# Altium footprint library PcbLib1.PcbLib: 23 footprints (part 1 of 2)
Each footprint in its own frame and in the unit in brackets; x right, y up, seen from the top. Pads: shape width x height; smd on the part's side, far side on the other; paste and mask are expansions set on the pad; w line width, h text height; cw(c..) or ccw(c..) is an arc to the next point about the centre after c.
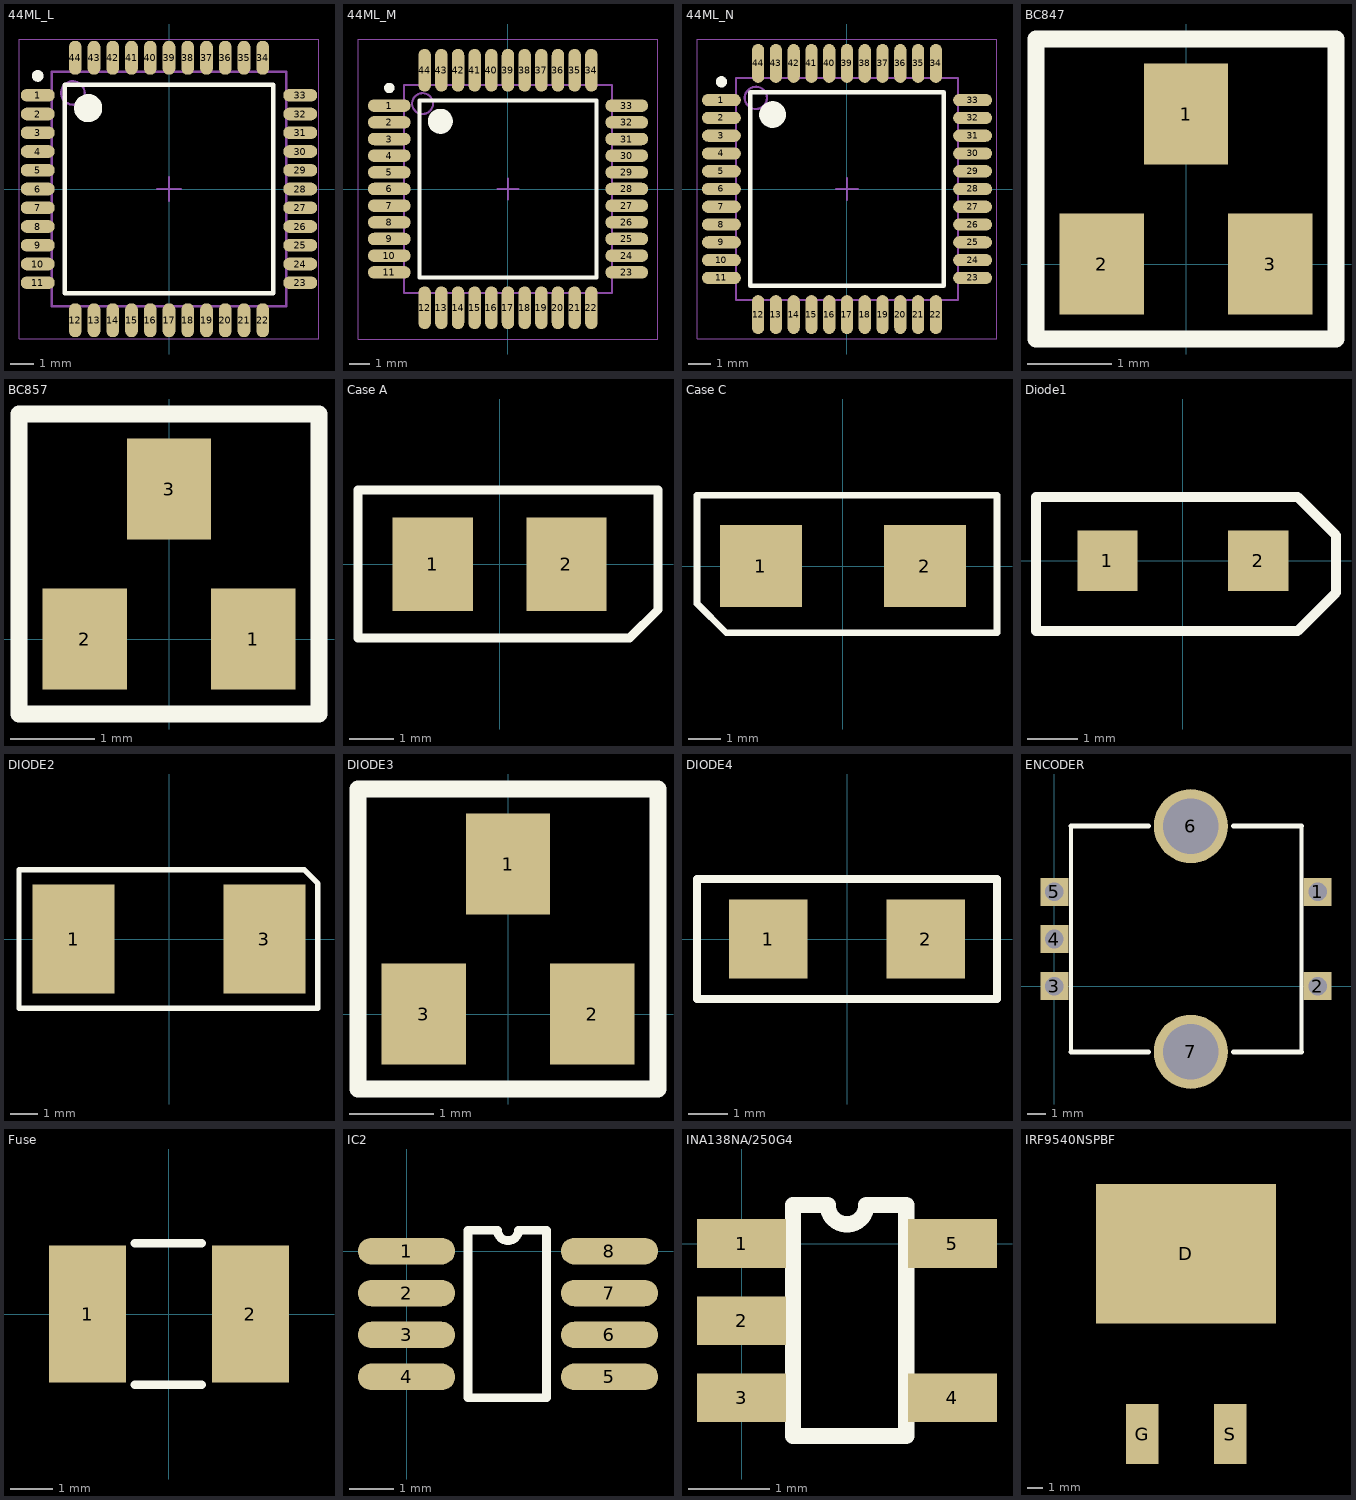
[diagram p0: the footprints below, top view; thin cyan lines are the x and y axes]

## 44ML_L [mm] "Thin QFP, 44-Leads, Body 10x10mm, Pitch 0.8mm, IPC High Density"
height 1.2
pads (44):
  oval 1.45x0.55 smd: 1(-5.6,4) 2(-5.6,3.2) 3(-5.6,2.4) 4(-5.6,1.6) 5(-5.6,0.8) 6(-5.6,0) 7(-5.6,-0.8) 8(-5.6,-1.6) 9(-5.6,-2.4) 10(-5.6,-3.2) 11(-5.6,-4) 23(5.6,-4) 24(5.6,-3.2) 25(5.6,-2.4) 26(5.6,-1.6) 27(5.6,-0.8) 28(5.6,0) 29(5.6,0.8) 30(5.6,1.6) 31(5.6,2.4) 32(5.6,3.2) 33(5.6,4)
  oval 0.55x1.45 smd: 12(-4,-5.6) 13(-3.2,-5.6) 14(-2.4,-5.6) 15(-1.6,-5.6) 16(-0.8,-5.6) 17(0,-5.6) 18(0.8,-5.6) 19(1.6,-5.6) 20(2.4,-5.6) 21(3.2,-5.6) 22(4,-5.6) 34(4,5.6) 35(3.2,5.6) 36(2.4,5.6) 37(1.6,5.6) 38(0.8,5.6) 39(0,5.6) 40(-0.8,5.6) 41(-1.6,5.6) 42(-2.4,5.6) 43(-3.2,5.6) 44(-4,5.6)
Top Overlay:
  circle w0.25: c-5.6,4.825 r0.125
  circle w0.6: c-3.45,3.45 r0.3
  lines w0.2: -4.45,-4.45 -4.45,4.45 4.45,4.45 4.45,-4.45 -4.45,-4.45
Mechanical 13:
  circle w0.1: c-4.1,4.1 r0.5
  lines w0.1: -5,-5 -5,5 5,5 5,-5 -5,-5
Mechanical 15:
  lines w0.05: -6.4,-6.4 -6.4,6.4 6.4,6.4 6.4,-6.4 -6.4,-6.4
  lines w0.1: -0.5,0 0.5,0 ; 0,-0.5 0,0.5
3D body: height 1.2, standoff 0, extent -5,-5 5,5

## 44ML_M [mm] "Thin QFP, 44-Leads, Body 10x10mm, Pitch 0.8mm, IPC Low Density"
height 1.2
pads (44):
  oval 2.05x0.6 smd: 1(-5.7,4) 2(-5.7,3.2) 3(-5.7,2.4) 4(-5.7,1.6) 5(-5.7,0.8) 6(-5.7,0) 7(-5.7,-0.8) 8(-5.7,-1.6) 9(-5.7,-2.4) 10(-5.7,-3.2) 11(-5.7,-4) 23(5.7,-4) 24(5.7,-3.2) 25(5.7,-2.4) 26(5.7,-1.6) 27(5.7,-0.8) 28(5.7,0) 29(5.7,0.8) 30(5.7,1.6) 31(5.7,2.4) 32(5.7,3.2) 33(5.7,4)
  oval 0.6x2.05 smd: 12(-4,-5.7) 13(-3.2,-5.7) 14(-2.4,-5.7) 15(-1.6,-5.7) 16(-0.8,-5.7) 17(0,-5.7) 18(0.8,-5.7) 19(1.6,-5.7) 20(2.4,-5.7) 21(3.2,-5.7) 22(4,-5.7) 34(4,5.7) 35(3.2,5.7) 36(2.4,5.7) 37(1.6,5.7) 38(0.8,5.7) 39(0,5.7) 40(-0.8,5.7) 41(-1.6,5.7) 42(-2.4,5.7) 43(-3.2,5.7) 44(-4,5.7)
Top Overlay:
  circle w0.6: c-3.25,3.25 r0.3
  circle w0.25: c-5.7,4.85 r0.125
  lines w0.2: -4.25,-4.25 4.25,-4.25 4.25,4.25 -4.25,4.25 -4.25,-4.25
Mechanical 13:
  circle w0.1: c-4.1,4.1 r0.5
  lines w0.1: -5,-5 5,-5 5,5 -5,5 -5,-5
Mechanical 15:
  lines w0.05: -7.2,-7.2 7.2,-7.2 7.2,7.2 -7.2,7.2 -7.2,-7.2
  lines w0.1: -0.5,0 0.5,0 ; 0,-0.5 0,0.5
3D body: height 1.2, standoff 0, extent -5,-5 5,5

## 44ML_N [mm] "Thin QFP, 44-Leads, Body 10x10mm, Pitch 0.8mm, IPC Medium Density"
height 1.2
pads (44):
  oval 1.75x0.55 smd: 1(-5.65,4) 2(-5.65,3.2) 3(-5.65,2.4) 4(-5.65,1.6) 5(-5.65,0.8) 6(-5.65,0) 7(-5.65,-0.8) 8(-5.65,-1.6) 9(-5.65,-2.4) 10(-5.65,-3.2) 11(-5.65,-4) 23(5.65,-4) 24(5.65,-3.2) 25(5.65,-2.4) 26(5.65,-1.6) 27(5.65,-0.8) 28(5.65,0) 29(5.65,0.8) 30(5.65,1.6) 31(5.65,2.4) 32(5.65,3.2) 33(5.65,4)
  oval 0.55x1.75 smd: 12(-4,-5.65) 13(-3.2,-5.65) 14(-2.4,-5.65) 15(-1.6,-5.65) 16(-0.8,-5.65) 17(0,-5.65) 18(0.8,-5.65) 19(1.6,-5.65) 20(2.4,-5.65) 21(3.2,-5.65) 22(4,-5.65) 34(4,5.65) 35(3.2,5.65) 36(2.4,5.65) 37(1.6,5.65) 38(0.8,5.65) 39(0,5.65) 40(-0.8,5.65) 41(-1.6,5.65) 42(-2.4,5.65) 43(-3.2,5.65) 44(-4,5.65)
Top Overlay:
  circle w0.25: c-5.65,4.825 r0.125
  circle w0.6: c-3.35,3.35 r0.3
  lines w0.2: -4.35,-4.35 -4.35,4.35 4.35,4.35 4.35,-4.35 -4.35,-4.35
Mechanical 13:
  circle w0.1: c-4.1,4.1 r0.5
  lines w0.1: -5,-5 -5,5 5,5 5,-5 -5,-5
Mechanical 15:
  lines w0.05: -6.75,-6.75 -6.75,6.75 6.75,6.75 6.75,-6.75 -6.75,-6.75
  lines w0.1: -0.5,0 0.5,0 ; 0,-0.5 0,0.5
3D body: height 1.2, standoff 0, extent -5,-5 5,5

## BC847 [mm]
pads (3):
  rect 1x1.2 smd: 1(0,1.778) 2(-1,0) 3(1,0)
Top Overlay:
  lines w0.2: -1.778,-0.889 1.778,-0.889 1.778,2.667 -1.778,2.667 -1.778,-0.889

## BC857 [mm]
pads (3):
  rect 1x1.2 smd: 1(1,0) 2(-1,0) 3(0,1.778)
Top Overlay:
  lines w0.2: -1.778,-0.889 1.778,-0.889 1.778,2.667 -1.778,2.667 -1.778,-0.889

## Case A [mm]
pads (2):
  rect 1.8x2.1 smd: 1(-1.5,0) 2(1.5,0)
Top Overlay:
  lines w0.2: -3.175,-1.651 -2.254,-1.651 0.857,-1.651 2.921,-1.651 3.556,-1.016 3.556,1.667 -3.175,1.667 -3.175,0.087 -3.175,-1.651

## Case C [mm]
pads (2):
  rect 2.5x2.5 smd: 1(-2.5,0) 2(2.5,0)
Top Overlay:
  lines w0.2: -4.445,-1.143 -4.445,0.555 -4.445,2.159 4.699,2.159 4.699,-2.032 -3.556,-2.032 -4.445,-1.143

## Diode1 [mm]
pads (2):
  rect 1.2x1.2 smd: 1(-1.5,0) 2(1.5,0)
Top Overlay:
  lines w0.2: -2.921,-1.397 -2.921,-1.079 -2.921,1.27 2.286,1.27 3.048,0.508 3.048,-0.635 2.286,-1.397 -2.921,-1.397

## DIODE2 [mm]
pads (2):
  rect 3x4 smd: 1(-3.5,0) 3(3.5,0)
Top Overlay:
  lines w0.2: -5.5,-2.54 -5.5,0 -5.5,2.54 4.953,2.54 5.461,2.032 5.461,-2.54 -5.5,-2.54

## DIODE3 [mm]
pads (3):
  rect 1x1.2 smd: 1(0,1.778) 2(1,0) 3(-1,0)
Top Overlay:
  lines w0.2: -1.778,-0.889 1.778,-0.889 1.778,2.667 -1.778,2.667 -1.778,-0.889

## DIODE4 [mm]
pads (2):
  rect 2x2 smd: 1(-2,0) 2(2,0)
Top Overlay:
  lines w0.2: -3.81,-1.524 3.81,-1.524 3.81,1.524 -3.81,1.524 -3.81,0.69 -3.81,-1.524

## ENCODER [mm]
pads (7):
  rect 1.5x1.5 / inner round 1.2 / far side round 1.2 hole 1: 1(14.2,5.08) 2(14.2,0) 3(0,0) 4(0,2.54) 5(0,5.08)
  round 4 hole 3: 6(7.366,8.636) 7(7.366,-3.556)
Top Overlay:
  lines w0.2: 0.889,-3.556 0.889,2.886 0.889,8.636 ; 13.335,-3.556 13.335,8.636
  lines w0.254: 0.889,-3.556 5.08,-3.556 ; 0.889,8.636 5.08,8.636 ; 9.652,-3.556 13.335,-3.556 ; 9.652,8.636 13.335,8.636

## Fuse [mm]
pads (2):
  rect 1.8x3.2 smd: 1(-1.9,0) 2(1.9,0)
Top Overlay:
  lines w0.2: -0.796,-1.651 0.762,-1.651 ; -0.796,1.651 0.762,1.651

## IC2 [mm]
pads (8):
  oval 2.2x0.6 smd: 1(0,0) 2(0,-0.95) 3(0,-1.9) 4(0,-2.85) 5(4.6,-2.85) 6(4.6,-1.9) 7(4.6,-0.95) 8(4.6,0)
Top Overlay:
  lines w0.2: 1.397,-3.325 3.175,-3.325 3.175,0.475 2.538,0.475 cw(c2.3,0.475) 2.063,0.475 1.397,0.475 1.397,-3.325

## INA138NA/250G4 [mm]
pads (5):
  rect 1.1x0.6 smd: 1(0,0) 2(0,-0.95) 3(0,-1.9) 4(2.6,-1.9) 5(2.6,0)
Top Overlay:
  lines w0.2: 0.635,-2.375 2.032,-2.375 2.032,0.475 1.538,0.475 cw(c1.3,0.475) 1.062,0.475 0.635,0.475 0.635,-2.375

## IRF9540NSPBF [mil]
pads (3):
  rect 450x350 smd: D(-22305.62,33261.8)
  rect 82x150 smd: G(-22415,32810) S(-22195,32810)